# Altium schematic symbol library SL_Modules.SchLib: 1 symbol
Pins are listed as number, name and electrical type; pins without a type are passive.

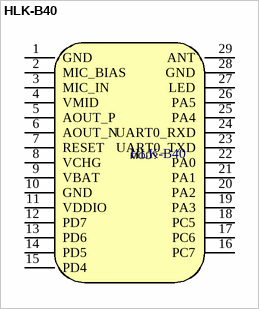
[diagram p0: symbol HLK-B40]

## HLK-B40
designator MOD?
Manufacturer: HI-LINK(海凌科); Name: HLK-B40; Symbol: HLK-B40; Device: HLK-B40; LCSC Part Name: HLK-B40; Manufacturer Part: HLK-B40; Supplier Footprint: SMD,9.5x14mm
footprint hlk-b40
pins: 1 GND, 2 MIC_BIAS, 3 MIC_IN, 4 VMID, 5 AOUT_P, 6 AOUT_N, 7 RESET, 8 VCHG, 9 VBAT, 10 GND, 11 VDDIO, 12 PD7, 13 PD6, 14 PD5, 15 PD4, 16 PC7, 17 PC6, 18 PC5, 19 PA3, 20 PA2, 21 PA1, 22 PA0, 23 UART0_TXD, 24 UART0_RXD, 25 PA4, 26 PA5, 27 LED, 28 GND, 29 ANT